# Altium schematic symbol library SamacSys.SchLib: 13 symbols
Pins are listed as number, name and electrical type; pins without a type are passive.

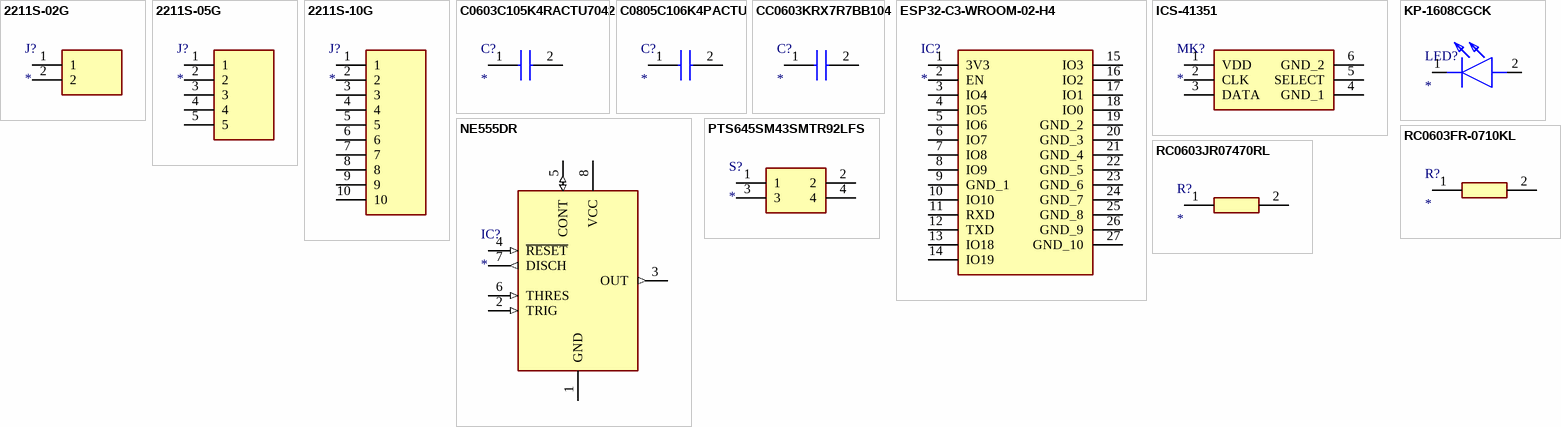
[diagram p0: symbols 2211S-02G to RC0603JR07470RL]

## 2211S-02G
designator J?
Connector; Manufacturer_Name: MULTICOMP; Manufacturer_Part_Number: 2211S-02G; Datasheet Link: https://uk.farnell.com/multicomp/2211s-02g/header-1-row-vert-2way/dp/1593411; Height: 8.74mm
footprint HDRV2W64P0X254_1X2_508X254X874P
pins: 1, 2

## 2211S-05G
designator J?
Connector; Manufacturer_Name: MULTICOMP; Manufacturer_Part_Number: 2211S-05G; Datasheet Link: http://www.farnell.com/datasheets/1518407.pdf; Height: 11.74mm
footprint HDRV5W90P0X254_1X5_1270X254X1174P
pins: 1, 2, 3, 4, 5

## 2211S-10G
designator J?
Header; Manufacturer_Name: MULTICOMP; Manufacturer_Part_Number: 2211S-10G; Datasheet Link: https://componentsearchengine.com/Datasheets/2/2211S-10G.pdf; Height: 8.54mm
footprint HDRV10W64P0X254_1X10_2540X254X854P
pins: 1, 2, 3, 4, 5, 6, 7, 8, 9, 10

## C0603C105K4RACTU7042
designator C?
Capacitor; Manufacturer_Name: KEMET; Manufacturer_Part_Number: C0603C105K4RACTU7042; Datasheet Link: https://www.arrow.com/en/products/c0603c105k4ractu7042/kemet-corporation; Height: 0.9mm; Arrow Part Number: C0603C105K4RACTU7042; Arrow Price/Stock: https://www.arrow.com/en/products/c0603c105k4ractu7042/kemet-corporation
footprint CAPC1608X90N
pins: 1, 2

## C0805C106K4PACTU
designator C?
Capacitor; Manufacturer_Name: KEMET; Manufacturer_Part_Number: C0805C106K4PACTU; Datasheet Link: https://content.kemet.com/datasheets/KEM_C1006_X5R_SMD.pdf; Height: 1.1mm; Mouser Part Number: 80-C0805C106K4P; Mouser Price/Stock: https://www.mouser.co.uk/ProductDetail/KEMET/C0805C106K4PACTU?qs=LOQsJ2JwiRQzQlGR%2F0Z13g%3D%3D; Arrow Part Number: C0805C106K4PACTU; Arrow Price/Stock: https://www.arrow.com/en/products/c0805c106k4pactu/kemet-corporation
footprint C0805
pins: 1, 2

## CC0603KRX7R7BB104
designator C?
Capacitor; Manufacturer_Name: KEMET; Manufacturer_Part_Number: CC0603KRX7R7BB104; Datasheet Link: https://ms.componentsearchengine.com/Datasheets/2/CC0603KRX7R7BB104.pdf; Height: 0.9mm; Mouser Part Number: 603-CC603KRX7R7BB104; Mouser Price/Stock: https://www.mouser.co.uk/ProductDetail/YAGEO/CC0603KRX7R7BB104?qs=AgBp2OyFlx8KPmNTlFoWXA%3D%3D; Arrow Part Number: CC0603KRX7R7BB104; Arrow Price/Stock: https://www.arrow.com/en/products/cc0603krx7r7bb104/yageo?region=nac
footprint CAPC1608X90N
pins: 1, 2

## ESP32-C3-WROOM-02-H4
designator IC?
Integrated Circuit; Manufacturer_Name: Espressif Systems; Manufacturer_Part_Number: ESP32-C3-WROOM-02-H4; Datasheet Link: https://www.mouser.in/datasheet/2/891/Espressif_Systems_04082021_ESP32_C3_WROOM_02-2295851.pdf; Height: 3.35mm; Mouser Part Number: 356-ESP32C3WROOM02H4; Mouser Price/Stock: https://www.mouser.co.uk/ProductDetail/Espressif-Systems/ESP32-C3-WROOM-02-H4?qs=stqOd1AaK79%2FSA14oWtR%252Bw%3D%3D
footprint ESP32C3WROOM02H4
pins: 1 3V3, 2 EN, 3 IO4, 4 IO5, 5 IO6, 6 IO7, 7 IO8, 8 IO9, 9 GND_1, 10 IO10, 11 RXD, 12 TXD, 13 IO18, 14 IO19, 15 IO3, 16 IO2, 17 IO1, 18 IO0, 19 GND_2, 20 GND_3, 21 GND_4, 22 GND_5, 23 GND_6, 24 GND_7, 25 GND_8, 26 GND_9, 27 GND_10

## ICS-41351
designator MK?
Microphone; Manufacturer_Name: TDK; Manufacturer_Part_Number: ICS-41351; Description: 50 Hz ~ 20 kHz Digital; Datasheet Link: https://product.tdk.com/system/files/dam/doc/product/sw_piezo/mic/mems-mic/data_sheet/ds-000157-ics-41351-v1.1.pdf; Height: 1.08mm; Mouser Part Number: 410-ICS-41351; Mouser Price/Stock: https://www.mouser.co.uk/ProductDetail/TDK-InvenSense/ICS-41351?qs=%252B6g0mu59x7LDJ1mBnROZzA%3D%3D; Arrow Part Number: ICS-41351; Arrow Price/Stock: https://www.arrow.com/en/products/ics-41351/invensense
footprint ICS41351
pins: 1 VDD, 2 CLK, 3 DATA, 4 GND_1, 5 SELECT, 6 GND_2

## KP-1608CGCK
designator LED?
LED; Manufacturer_Name: Kingbright; Manufacturer_Part_Number: KP-1608CGCK; Datasheet Link: https://componentsearchengine.com/Datasheets/2/KP-1608CGCK.pdf; Height: 1.2mm; Mouser Part Number: N/A; Mouser Price/Stock: https://www.mouser.co.uk/ProductDetail/Kingbright/KP-1608CGCK?qs=2JU0tDl2GZ3U0MYrqLedOQ%3D%3D; Arrow Part Number: KP-1608CGCK; Arrow Price/Stock: https://www.arrow.com/en/products/kp-1608cgck/kingbright?region=europe
footprint LEDC1608X120N
pins: 1 K, 2 A

## NE555DR
designator IC?
Integrated Circuit; Manufacturer_Name: Texas Instruments; Manufacturer_Part_Number: NE555DR; Datasheet Link: http://www.ti.com/lit/ds/symlink/ne555.pdf; Height: 1.75mm; Mouser Part Number: 595-NE555DR; Mouser Price/Stock: https://www.mouser.com/Search/Refine.aspx?Keyword=595-NE555DR; RS Part Number: 1218414; RS Price/Stock: http://uk.rs-online.com/web/p/products/1218414
footprint SOIC127P600X175-8N
pins: 1 GND (power), 2 TRIG (in), 3 OUT (out), 4 ~{RESET} (in), 5 CONT (io), 6 THRES (in), 7 DISCH (out), 8 VCC (power)

## PTS645SM43SMTR92LFS
designator S?
Switch; Manufacturer_Name: C & K COMPONENTS; Manufacturer_Part_Number: PTS645SM43SMTR92LFS; Datasheet Link: http://www.farnell.com/datasheets/1914518.pdf; Mouser Part Number: 611-PTS645SM43SMTR92; Mouser Price/Stock: https://www.mouser.co.uk/ProductDetail/CK/PTS645SM43SMTR92LFS?qs=FESYatJ8odKPktxv6ncfWg%3D%3D; Arrow Part Number: PTS645SM43SMTR92LFS; Arrow Price/Stock: https://www.arrow.com/en/products/pts645sm43smtr92lfs/ck
footprint PTS645(SMT)
pins: 1, 2, 3, 4

## RC0603FR-0710KL
designator R?
Resistor; Manufacturer_Name: KEMET; Manufacturer_Part_Number: RC0603FR-0710KL; Datasheet Link: https://datasheet.datasheetarchive.com/originals/distributors/Datasheets_SAMA/902f9e387b938f871d31120f5fc1d65e.pdf; Height: 0.55mm; Mouser Part Number: 603-RC0603FR-0710KL; Mouser Price/Stock: https://www.mouser.co.uk/ProductDetail/YAGEO/RC0603FR-0710KL?qs=grNVn54RoB%252B3GtjbJj3wJQ%3D%3D; Arrow Part Number: RC0603FR-0710KL; Arrow Price/Stock: https://www.arrow.com/en/products/rc0603fr-0710kl/yageo?region=nac
footprint RESC1608X55N
pins: 1, 2

## RC0603JR07470RL
designator R?
Resistor; Manufacturer_Name: KEMET; Manufacturer_Part_Number: RC0603JR07470RL; Height: 0.55mm; Arrow Part Number: RC0603JR07470RL; Arrow Price/Stock: https://www.arrow.com/en/products/rc0603jr-07470rl/yageo
footprint RESC1608X55N
pins: 1, 2